# EAGLE library part MS5611 (library Measurement Specialties)
MS5611 Pressure Sensor from SEAS Switzerland.
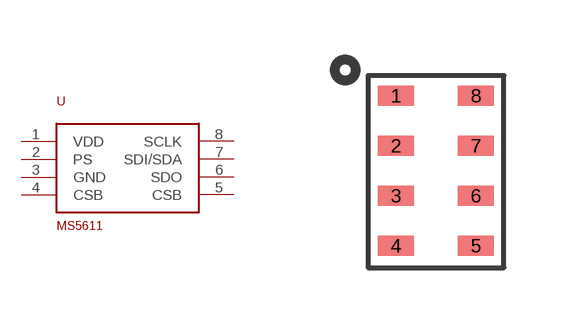
[diagram p0: symbol with the pads of MS5611; footprint MS5611]

Designator prefix U

## MS5611  [MS5611]
1  VDD
2  PS
3  GND
4  CSB
5  CSB
6  SDO
7  SDI/SDA
8  SCLK

## Footprint MS5611 (pad centres in mm)
smd 0.9 x 0.5: 1 0,0; 2 0,-1.25; 3 0,-2.5; 4 0,-3.75; 5 2,-3.75; 6 2,-2.5; 7 2,-1.25; 8 2,0